# Altium schematic symbol library JLCPCB_DIODE_LED_SMD.SchLib: 2 symbols
Pins are listed as number, name and electrical type; pins without a type are passive.

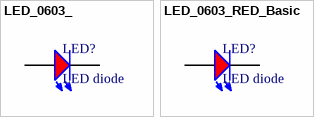
[diagram p0: symbols LED_0603_ to LED_0603_RED_Basic]

## LED_0603_
designator LED?, comment LED diode
Manufacturer: *; ComponentLink1Description: Datasheet; MFR_Part#: *; JLCPCB_Part#: *; Colour: *; I(F): *; V(R): *
footprint LED0603 (Chip Diode, 2-Leads, Body 1,60x0,80mm, IPC Medium Density)
pins: 1 A, 2 K

## LED_0603_RED_Basic
designator LED?, comment LED diode
Light Emitting Diodes (LED) Red 520~625nm 90~100mcd@20mA Top View 0603 RoHS; Manufacturer: Hubei KENTO Elec; MFR_Part#: KT-0603R; I(F): 20mA; V(R): 5V; V(F): 1.9-2.2V; Basic: Yes; ComponentLink1Description: Datasheet; JLCPCB_Part#: C2286; Colour: Red
footprint LED0603 (Chip Diode, 2-Leads, Body 1,60x0,80mm, IPC Medium Density)
pins: 1 A, 2 K